# Altium schematic symbol library POT.Schlib: 1 symbol
Pins are listed as number, name and electrical type; pins without a type are passive.

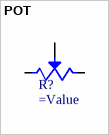
[diagram p0: symbol POT]

## POT
designator R?
POTENTIOMETER
pins: 1, 2, 3